# Altium integrated library Silicon Labs Clocks and Oscillators.IntLib: 678 symbols (part 34 of 45)
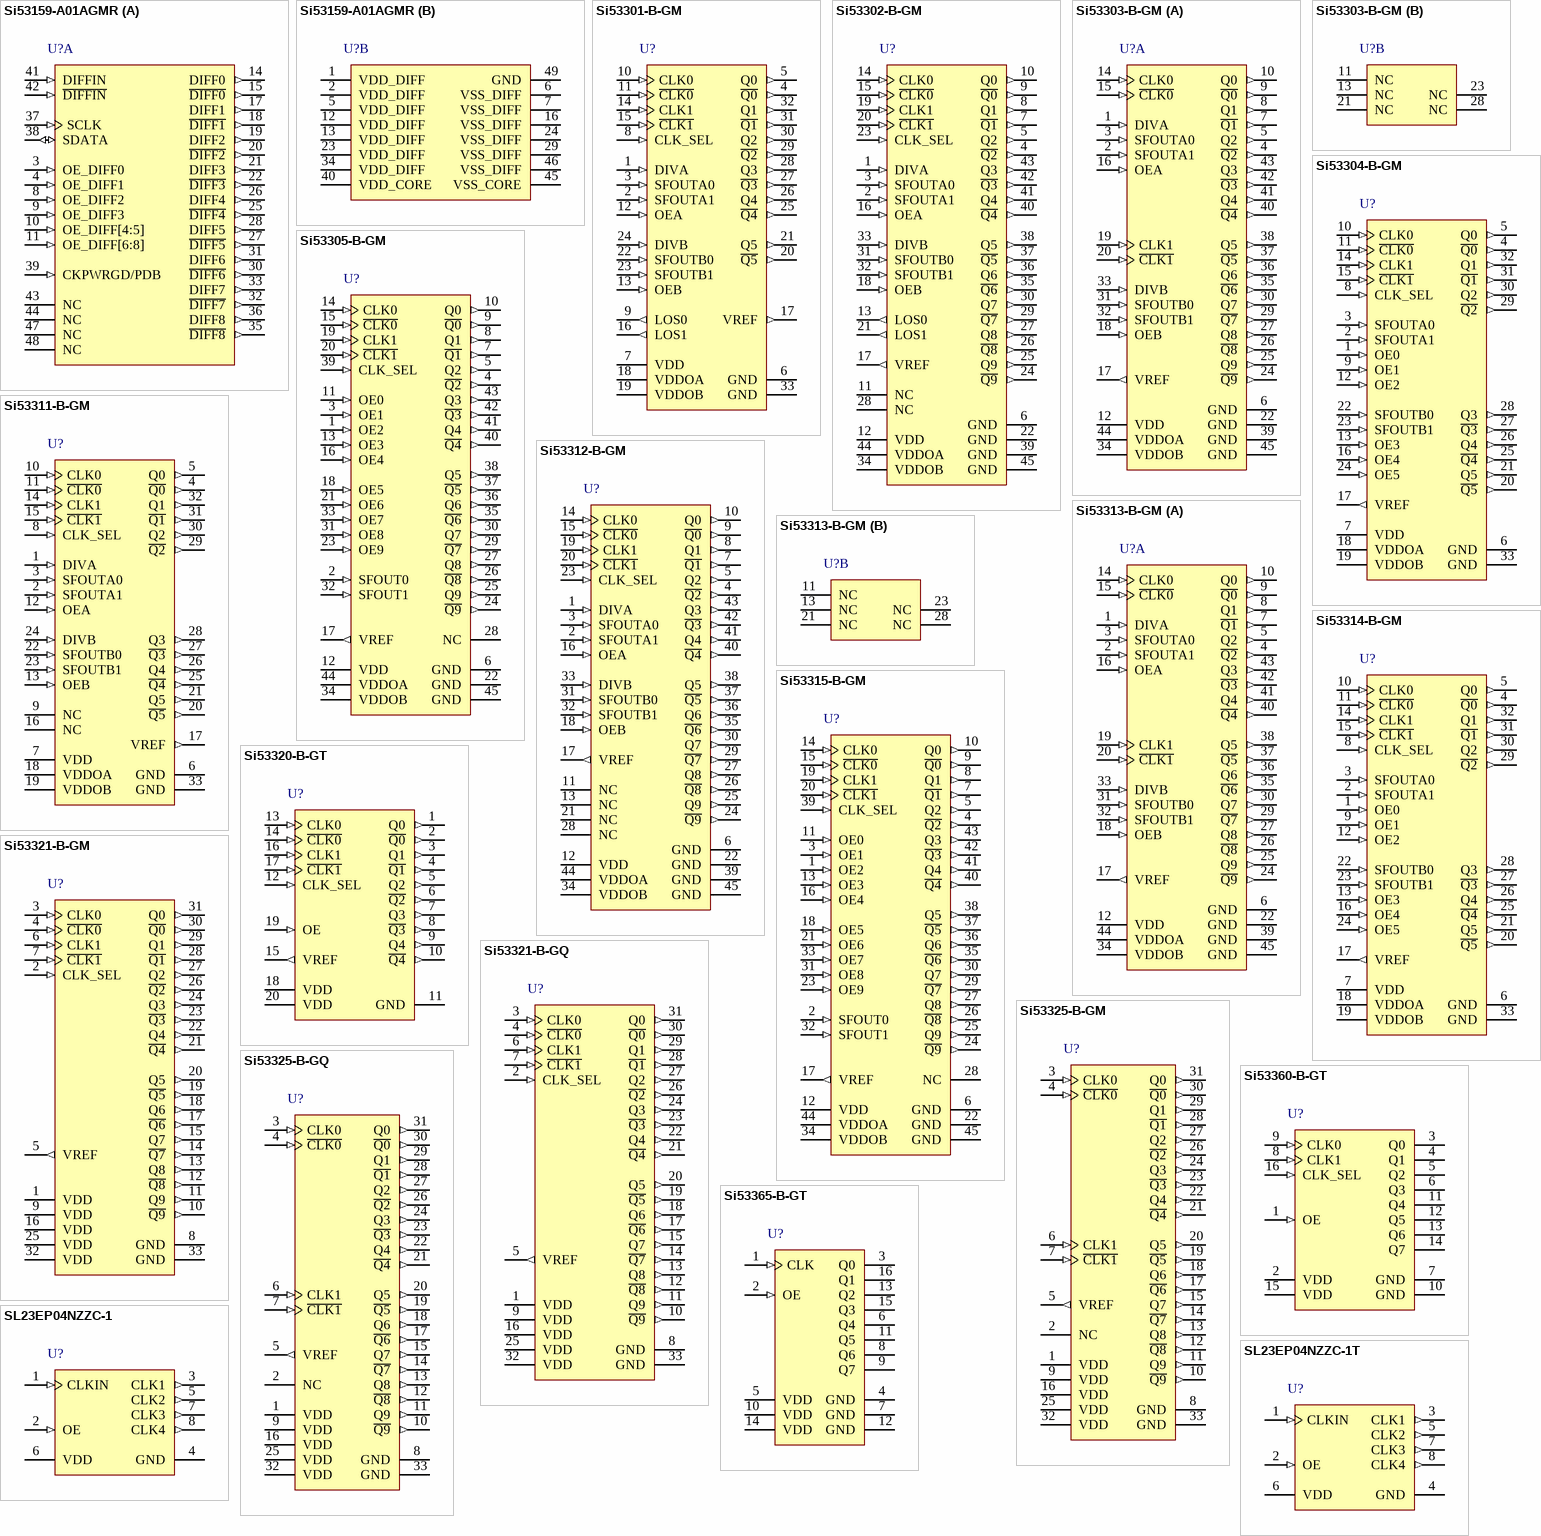
[diagram p77: symbols Si53159-A01AGMR to SL23EP04NZZC-1T]

## Si53303-B-GM
designator U?
Dual 1:5 Low Jitter Buffer / Level Translator, 1 to 725 MHz, -40 to 85 degC, 44-pin QFN; Manufacturer: Silicon Labs; PartNumber: Si53303-B-GM; Frequency (MHz): 1 to 725; Output Format: LVPECL; LVDS; CML; HCSL; LVCMOS; Sub-Family: Clock Buffers; DatasheetVersion: Rev. 0.4; PackageReference: QFN-44; PackageDescription: 44-Pin Quad-Flat No-Leads Package, Body 7 x 7 mm, Pitch 0.5 mm; Supplier 1: Digi-Key; Supplier Part Number 1: SI53303-B-GM-ND; Supplier 2: Mouser; Supplier Part Number 2: 634-SI53303-B-GM; Mounting Technology: Surface Mount; Code_JEDEC: MO-220; Code_IPC: J-STD-020; ComponentLink1Description: Manufacturer URL; ComponentLink1URL: http://www.silabs.com/; ComponentLink2Description: Datasheet; ComponentLink2URL: http://www.silabs.com/Support%20Documents/TechnicalDocs/Si53303.pdf; ComponentLink3Description: Package Specification; ComponentLink3URL: http://www.silabs.com/Support%20Documents/TechnicalDocs/Si53302.pdf
footprint SLAB-QFN-44-2800x2800TP_N (QFN, 44-Leads, Body 7x7mm, Pitch 0.5mm, Thermal Pad 2.8x2.8mm, IPC Medium Density)
footprint SLAB-QFN-44-2800x2800TP_L (QFN, 44-Leads, Body 7x7mm, Pitch 0.5mm, Thermal Pad 2.8x2.8mm, IPC High Density)
footprint SLAB-QFN-44-2800x2800TP_M (QFN, 44-Leads, Body 7x7mm, Pitch 0.5mm, Thermal Pad 2.8x2.8mm, IPC Low Density)
part A pins: 1 DIVA (in) "Output divider control pin for Bank A Three-level input control. Internally biased at VDD/2. Can be left floating or tied to ground or VDD.", 2 SFOUTA1 (in) "Output signal format control pin for Bank A Three-level input control. Internally biased at VDD/2. Can be left floating or tied to ground or VDD.", 3 SFOUTA0 (in) "Output signal format control pin for Bank A Three-level input control. Internally biased at VDD/2. Can be left floating or tied to ground or VDD.", 4 ~{Q2} (out) "Output clock 2 (complement)", 5 Q2 (out) "Output clock 2", 6 GND (power) "Ground", 7 ~{Q1} (out) "Output clock 1 (complement)", 8 Q1 (out) "Output clock 1", 9 ~{Q0} (out) "Output clock 0 (complement)", 10 Q0 (out) "Output clock 0", 12 VDD (power) "Core voltage supply Bypass with 1.0 uF capacitor and place close to the VDD pin as possible", 14 CLK0 (in) "Input clock 0", 15 ~{CLK0} (in) "Input clock 0 (complement) When CLK0 is driven by a single-ended input, connect VREF to C\L\K\0\. C\L\K\0\ contains an internal pull-up resistor", 16 OEA (in) "Output enable-Bank A When OE = high, the Bank A outputs are enabled When OE = low, Q is held low and Q\ is held high for differential formats For LVCMOS, both Q and Q\ are held low when OE is set low OEA contains an internal (See Datasheet)", 17 VREF (out) "Input reference voltage.When driven by a LVCMOS clock input, connect the unused clock input to VREF and a  0.1uF cap to ground. When driven by a differential clock, do not connect the VREF pin.", 18 OEB (in) "Output enable-Bank B When OE = high, the Bank B outputs are enabled When OE = low, Q is held low and Q\ is held high for differential formats For LVCMOS, both Q and Q\ are held low when OE is set low OEB contains an internal (See Datasheet)", 19 CLK1 (in) "Input clock 1", 20 ~{CLK1} (in) "Input clock 1 (complement) When CLK1 is driven by a single-ended input,When CLK1 is driven by a single-end input, connect VREF to C\L\K\1\. C\L\K\1\ contains an internal pull-up resistor", 22 GND (power) "Ground", 24 ~{Q9} (out) "Output clock 9 (complement)", 25 Q9 (out) "Output clock 9", 26 ~{Q8} (out) "Output clock 8 (complement)", 27 Q8 (out) "Output clock 8", 29 ~{Q7} (out) "Output clock 7 (complement)", 30 Q7 (out) "Output clock 7", 31 SFOUTB0 (in) "Output signal format control pin for Bank B Three-level input control. Internally biased at VDD/2. Can be left floating or tied to ground or VDD.", 32 SFOUTB1 (in) "Output signal format control pin for Bank B Three-level input control. Internally biased at VDD/2. Can be left floating or tied to ground or VDD.", 33 DIVB (in) "Output divider configuration bit for Bank B Three-level input control. Internally biased at VDD/2. Can be left floating or tied to ground or VDD.", 34 VDDOB (power) "Output Clock Voltage Supply-Bank B (Outputs: Q5 to Q9) Bypass with 1.0 uF capacitor and place close to the VDDOB pin as possible", 35 ~{Q6} (out) "Output clock 6 (complement)", 36 Q6 (out) "Output clock 6", 37 ~{Q5} (out) "Output clock 5 (complement)", 38 Q5 (out) "Output clock 5", 39 GND (power) "Ground", 40 ~{Q4} (out) "Output clock 4 (complement)", 41 Q4 (out) "Output clock 4", 42 ~{Q3} (out) "Output clock 3 (complement)", 43 Q3 (out) "Output clock 3", 44 VDDOA (power) "Output Voltage Supply-Bank A (Outputs: Q0 to Q4) Bypass with 1.0 uF capacitor and place close to the VDDOA pin as possible", 45 GND (power) "Ground Pad. Power supply ground and thermal relief"
part B pins: 11 NC "No connect", 13 NC "No connect", 21 NC "No connect", 23 NC "No connect", 28 NC "No connect"

## Si53304-B-GM
designator U?
1:6 Low Jitter Universal Buffer / Level Translator with 2:1 Input Mux and Individual OE, 1 to 725 MHz, -40 to 85 degC, 32-pin QFN; Manufacturer: Silicon Labs; PartNumber: Si53304-B-GM; Frequency (MHz): 1 to 725; Output Format: LVPECL; LVDS; CML; HCSL; LVCMOS; Sub-Family: Clock Buffers; DatasheetVersion: Rev. 0.4; PackageReference: QFN-32; PackageDescription: 32-Pin Quad-Flat No-Leads Package, Body 5 x 5 mm, Pitch 0.5 mm; Supplier 1: Digi-Key; Supplier Part Number 1: SI53304-B-GM-ND; Supplier 2: Mouser; Supplier Part Number 2: 634-SI53304-B-GM; Mounting Technology: Surface Mount; Code_JEDEC: MO-220; Code_IPC: J-STD-020; ComponentLink1Description: Manufacturer URL; ComponentLink1URL: http://www.silabs.com/; ComponentLink2Description: Datasheet; ComponentLink2URL: http://www.silabs.com/Support%20Documents/TechnicalDocs/Si53304.pdf; ComponentLink3Description: Package Specification; ComponentLink3URL: http://www.silabs.com/Support%20Documents/TechnicalDocs/Si53301.pdf
footprint SLAB-QFN-32-2150x2150TP_N (QFN, 32-Leads, Body 5x5mm, Pitch 0.5mm, Thermal Pad 2.15x2.15mm, IPC Medium Density)
footprint SLAB-QFN-32-2150x2150TP_L (QFN, 32-Leads, Body 5x5mm, Pitch 0.5mm, Thermal Pad 2.15x2.15mm, IPC High Density)
footprint SLAB-QFN-32-2150x2150TP_M (QFN, 32-Leads, Body 5x5mm, Pitch 0.5mm, Thermal Pad 2.15x2.15mm, IPC Low Density)
pins: 1 OE0 (in) "Output enable-Output 0 When OE = high, the Q0 is enabled. When OE = low, Q is held low and Q\ is held high for differential formats.For LVCMOS, both Q and Q\ are held low when OE is set low. This pin contains an internal (See Datasheet)", 2 SFOUTA1 (in) "Output signal format control pin for Bank A Three-level input control. Internally biased at VDD/2. Can be left floating or tied to ground or VDD.", 3 SFOUTA0 (in) "Output signal format control pin for Bank A Three-level input control. Internally biased at VDD/2. Can be left floating or tied to ground or VDD.", 4 ~{Q0} (out) "Output clock 0 (complement)", 5 Q0 (out) "Output clock 0", 6 GND (power) "Ground", 7 VDD (power) "Core voltage supply.Bypass with 1.0 uF capacitor and place as close to the VDD pin as possible.", 8 CLK_SEL (in) "Mux input select pin (LVCMOS) Clock inputs are switched without the introduction of glitches. When CLK_SEL is high, CLK1 is selected. When CLK_SEL is low, CLK0 is selected. CLK_SEL contains an internal pull-down resistor.", 9 OE1 (in) "Output enable-Output 1 When OE = high, the Q1 is enabled. When OE = low, Q is held low and Q\ is held high for differential formats.For LVCMOS, both Q and Q\ are held low when OE is set low. This pin contains an internal (See Datasheet)", 10 CLK0 (in) "Input clock 0", 11 ~{CLK0} (in) "Input clock 0 (complement When the CLK0 is driven by a single-end input, connect VREF to C\L\K\0\.C\L\K\0\ contains an internal pull-up resistor.", 12 OE2 (in) "Output enable-Output 2 When OE = high, the Q2 is enabled. When OE = low, Q is held low and Q\ is held high for differential formats.For LVCMOS, both Q and Q\ are held low when OE is set low. This pin contains an internal (See Datasheet)", 13 OE3 (in) "Output enable-Output 3 When OE = high, the Q3 is enabled. When OE = low, Q is held low and Q\ is held high for differential formats.For LVCMOS, both Q and Q\ are held low when OE is set low. This pin contains an internal (See Datasheet)", 14 CLK1 (in) "Input clock 1", 15 ~{CLK1} (in) "Input clock 1 (complement When the CLK1 is driven by a single-end input, connect VREF to C\L\K\1\.C\L\K\1\ contains an internal pull-up resistor.", 16 OE4 (in) "Output enable-Output 4 When OE = high, the Q4 is enabled. When OE = low, Q is held low and Q\ is held high for differential formats.For LVCMOS, both Q and Q\ are held low when OE is set low. This pin contains an internal (See Datasheet)", 17 VREF (out) "Input reference voltage", 18 VDDOA (power) "Output voltage supply-Bank A (Outputs: Q0 to Q2) Bypass with 1.0 uF capacitor and place as close to the VDDOA pin as possible.", 19 VDDOB (power) "Output voltage supply-Bank B (Outputs: Q3 to Q5) Bypass with 1.0 uF capacitor and place as close to the VDDOB pin as possible.", 20 ~{Q5} (out) "Output clock 5 (complement)", 21 Q5 (out) "Output clock 5", 22 SFOUTB0 (in) "Output signal format control pin for Bank B.Three-level input control. Internally biased at VDD/2. Can be left floating or tied toground or VDD.", 23 SFOUTB1 (in) "Output signal format control pin for Bank B.Three-level input control. Internally biased at VDD/2. Can be left floating or tied to ground or VDD.", 24 OE5 (in) "Output enable-Output 5 When OE = high, the Q5 is enabled. When OE = low, Q is held low and Q\ is held high for differential formats.For LVCMOS, both Q and Q\ are held low when OE is set low. This pin contains an internal (See Datasheet)", 25 ~{Q4} (out) "Output clock 4 (complement)", 26 Q4 (out) "Output clock 4", 27 ~{Q3} (out) "Output clock 3 (complement)", 28 Q3 (out) "Output clock 3", 29 ~{Q2} (out) "Output clock 2 (complement)", 30 Q2 (out) "Output clock 2", 31 ~{Q1} (out) "Output clock 1 (complement)", 32 Q1 (out) "Output clock 1", 33 GND (power) "Ground Pad.Power supply ground and thermal relief."

## Si53305-B-GM
designator U?
1:10 Low Jitter Universal Buffer/ Level Translator with 2:1 Input MUX and Individual OE, 1 to 725 MHz, -40 to 85 degC, 44-pin QFN; Manufacturer: Silicon Labs; PartNumber: Si53305-B-GM; Frequency (MHz): 1 to 725; Output Format: LVPECL; LVDS; CML; HCSL; LVCMOS; Sub-Family: Clock Buffers; DatasheetVersion: Rev. 0.4; PackageReference: QFN-44; PackageDescription: 44-Pin Quad-Flat No-Leads Package, Body 7 x 7 mm, Pitch 0.5 mm; Supplier 1: Digi-Key; Supplier Part Number 1: SI53305-B-GM-ND; Supplier 2: Mouser; Supplier Part Number 2: 634-SI53305-B-GM; Mounting Technology: Surface Mount; Code_JEDEC: MO-220; Code_IPC: J-STD-020; ComponentLink1Description: Manufacturer URL; ComponentLink1URL: http://www.silabs.com/; ComponentLink2Description: Datasheet; ComponentLink2URL: http://www.silabs.com/Support%20Documents/TechnicalDocs/Si53305.pdf; ComponentLink3Description: Package Specification; ComponentLink3URL: http://www.silabs.com/Support%20Documents/TechnicalDocs/Si53302.pdf
footprint SLAB-QFN-44-2800x2800TP_N (QFN, 44-Leads, Body 7x7mm, Pitch 0.5mm, Thermal Pad 2.8x2.8mm, IPC Medium Density)
footprint SLAB-QFN-44-2800x2800TP_L (QFN, 44-Leads, Body 7x7mm, Pitch 0.5mm, Thermal Pad 2.8x2.8mm, IPC High Density)
footprint SLAB-QFN-44-2800x2800TP_M (QFN, 44-Leads, Body 7x7mm, Pitch 0.5mm, Thermal Pad 2.8x2.8mm, IPC Low Density)
pins: 1 OE2 (in) "Output enable-Output 2 When OE = high, the Q2 is enabled. When OE = low, Q is held low, and Q\ is held high for differential formats. For LVCMOS, both Q and Q\ are held low when OE is set low. OE2 contains an internal (See Datasheet)", 2 SFOUT0 (in) "Output signal format control pin [0]  Three-level input control. Internally biased at VDD/2. Can be left floating or tied to  ground or VDD.", 3 OE1 (in) "Output enable-Output 1 When OE = high, the Q1 is enabled. When OE = low, Q is held low, and Q\ is held high for differential formats. For LVCMOS, both Q and Q\ are held low when OE is set low. OE1 contains an internal (See Datasheet)", 4 ~{Q2} (out) "Output clock 2 (complement)", 5 Q2 (out) "Output clock 2", 6 GND (power) "Ground", 7 ~{Q1} (out) "Output clock 1 (complement)", 8 Q1 (out) "Output clock 1", 9 ~{Q0} (out) "Output clock 0 (complement)", 10 Q0 (out) "Output clock 0", 11 OE0 (in) "Output enable-Output 0 When OE = high, the Q0 is enabled. When OE = low, Q is held low, and Q\ is held high for differential formats. For LVCMOS, both Q and Q\ are held low when OE is set low. OE0 contains an internal (See Datasheet)", 12 VDD (power) "Core voltage supply Bypass with 1.0 uF capacitor and place close to the VDD pin as possible", 13 OE3 (in) "Output enable-Output 3 When OE = high, the Q3 is enabled. When OE = low, Q is held low, and Q\ is held high for differential formats. For LVCMOS, both Q and Q\ are held low when OE is set low. OE3 contains an internal (See Datasheet)", 14 CLK0 (in) "Input clock 0", 15 ~{CLK0} (in) "Input clock 0 (complement) When CLK0 is driven by a single-ended input, connect VREF to C\L\K\0\. C\L\K\0\ contains an internal pull-up resistor", 16 OE4 (in) "Output enable-Output 4 When OE = high, the Q4 is enabled. When OE = low, Q is held low, and Q\ is held high for differential formats. For LVCMOS, both Q and Q\ are held low when OE is set low. OE4 contains an internal (See Datasheet)", 17 VREF (out) "Input reference voltage.When driven by a LVCMOS clock input, connect the unused clock input to VREF and a  0.1uF cap to ground. When driven by a differential clock, do not connect the VREF pin.", 18 OE5 (in) "Output enable-Output 5 When OE = high, the Q5 is enabled. When OE = low, Q is held low, and Q\ is held high for differential formats. For LVCMOS, both Q and Q\ are held low when OE is set low. OE5 contains an internal (See Datasheet)", 19 CLK1 (in) "Input clock 1", 20 ~{CLK1} (in) "Input clock 1 (complement) When CLK1 is driven by a single-ended input,When CLK1 is driven by a single-end input, connect VREF to C\L\K\1\. C\L\K\1\ contains an internal pull-up resistor", 21 OE6 (in) "Output enable-Output 6 When OE = high, the Q6 is enabled. When OE = low, Q is held low, and Q\ is held high for differential formats. For LVCMOS, both Q and Q\ are held low when OE is set low. OE6 contains an internal (See Datasheet)", 22 GND (power) "Ground", 23 OE9 (in) "Output enable-Output 9 When OE = high, the Q9 is enabled. When OE = low, Q is held low, and Q\ is held high for differential formats. For LVCMOS, both Q and Q\ are held low when OE is set low. OE9 contains an internal (See Datasheet)", 24 ~{Q9} (out) "Output clock 9 (complement)", 25 Q9 (out) "Output clock 9", 26 ~{Q8} (out) "Output clock 8 (complement)", 27 Q8 (out) "Output clock 8", 28 NC "No connect", 29 ~{Q7} (out) "Output clock 7 (complement)", 30 Q7 (out) "Output clock 7", 31 OE8 (in) "Output enable-Output 8 When OE = high, the Q8 is enabled. When OE = low, Q is held low, and Q\ is held high for differential formats. For LVCMOS, both Q and Q\ are held low when OE is set low. OE8 contains an internal (See Datasheet)", 32 SFOUT1 (in) "Output signal format control pin [1]  Three-level input control. Internally biased at VDD/2. Can be left floating or tied to  ground or VDD.", 33 OE7 (in) "Output enable-Output 7 When OE = high, the Q7 is enabled. When OE = low, Q is held low, and Q\ is held high for differential formats. For LVCMOS, both Q and Q\ are held low when OE is set low. OE7 contains an internal (See Datasheet)", 34 VDDOB (power) "Output Clock Voltage Supply-Bank B (Outputs: Q5 to Q9) Bypass with 1.0 uF capacitor and place close to the VDDOB pin as possible", 35 ~{Q6} (out) "Output clock 6 (complement)", 36 Q6 (out) "Output clock 6", 37 ~{Q5} (out) "Output clock 5 (complement)", 38 Q5 (out) "Output clock 5", 39 CLK_SEL (in) "MUX input select pin (LVCMOS) Clock inputs are switched without the introduction of glitches When CLK_SEL is high, CLK1 is selected When CLK_SEL is low, CLK0 is selected CLK_SEL contains an internal pull-down resistor", 40 ~{Q4} (out) "Output clock 4 (complement)", 41 Q4 (out) "Output clock 4", 42 ~{Q3} (out) "Output clock 3 (complement)", 43 Q3 (out) "Output clock 3", 44 VDDOA (power) "Output Voltage Supply-Bank A (Outputs: Q0 to Q4) Bypass with 1.0 uF capacitor and place close to the VDDOA pin as possible", 45 GND (power) "Ground Pad. Power supply ground and thermal relief"

## Si53311-B-GM
designator U?
1:6 Low Jitter Universal Buffer / Level Translator with 2:1 Input Mux, 1 to 1250 MHz, -40 to 85 degC, 32-pin QFN; Manufacturer: Silicon Labs; PartNumber: Si53311-B-GM; Output Format: LVPECL; LVDS; CML; HCSL; LVCMOS; Sub-Family: Clock Buffers; DatasheetVersion: Rev. 0.4; PackageReference: QFN-32; PackageDescription: 32-Pin Quad-Flat No-Leads Package, Body 5 x 5 mm, Pitch 0.5 mm; Supplier 1: Digi-Key; Supplier Part Number 1: SI53311-B-GM-ND; Supplier 2: Mouser; Supplier Part Number 2: 634-SI53311-B-GM; Frequency (MHz): 1 to 1250; Mounting Technology: Surface Mount; Code_JEDEC: MO-220; Code_IPC: J-STD-020; ComponentLink1Description: Manufacturer URL; ComponentLink1URL: http://www.silabs.com/; ComponentLink2Description: Datasheet; ComponentLink2URL: http://www.silabs.com/Support%20Documents/TechnicalDocs/Si53311.pdf; ComponentLink3Description: Package Specification; ComponentLink3URL: http://www.silabs.com/Support%20Documents/TechnicalDocs/Si53301.pdf
footprint SLAB-QFN-32-2150x2150TP_N (QFN, 32-Leads, Body 5x5mm, Pitch 0.5mm, Thermal Pad 2.15x2.15mm, IPC Medium Density)
footprint SLAB-QFN-32-2150x2150TP_L (QFN, 32-Leads, Body 5x5mm, Pitch 0.5mm, Thermal Pad 2.15x2.15mm, IPC High Density)
footprint SLAB-QFN-32-2150x2150TP_M (QFN, 32-Leads, Body 5x5mm, Pitch 0.5mm, Thermal Pad 2.15x2.15mm, IPC Low Density)
pins: 1 DIVA (in) "Output divider control pin for Bank A Three-level input control. Internally biased at VDD/2. Can be left floating or tied to ground or VDD.", 2 SFOUTA1 (in) "Output signal format control pin for Bank A Three-level input control. Internally biased at VDD/2. Can be left floating or tied to ground or VDD.", 3 SFOUTA0 (in) "Output signal format control pin for Bank A Three-level input control. Internally biased at VDD/2. Can be left floating or tied to ground or VDD.", 4 ~{Q0} (out) "Output clock 0 (complement)", 5 Q0 (out) "Output clock 0", 6 GND (power) "Ground", 7 VDD (power) "Core voltage supply.Bypass with 1.0 uF capacitor and place as close to the VDD pin as possible.", 8 CLK_SEL (in) "Mux input select pin (LVCMOS) Clock inputs are switched without the introduction of glitches. When CLK_SEL is high, CLK1 is selected. When CLK_SEL is low, CLK0 is selected. CLK_SEL contains an internal pull-down resistor.", 9 NC "No connect.", 10 CLK0 (in) "Input clock 0", 11 ~{CLK0} (in) "Input clock 0 (complement) When the CLK0 is driven by a single-end input, connect VREF to C\L\K\0\.C\L\K\0\ contains an internal pull-up resistor.", 12 OEA (in) "Output enable-Bank A When OE = high, the Bank A outputs are enabled. When OE = low, Q is held low, and Q\ is held high for differential formats. For LVCMOS, both Q and Q\ are held low when OE is set low. OEA contains an (See Datasheet)", 13 OEB (in) "Output enable-Bank B When OE = high, the Bank B outputs are enabled. When OE = low, Q is held low, and Q\ is held high for differential formats. For LVCMOS, both Q and Q\ are held low when OE is set low. OEB contains an (See Datasheet)", 14 CLK1 (in) "Input clock 1", 15 ~{CLK1} (in) "Input clock 1 (complement) When the CLK1 is driven by a single-end input, connect VREF to C\L\K\1\.C\L\K\1\ contains an internal pull-up resistor.", 16 NC "No connect.", 17 VREF (out) "Input reference voltage,When driven by a LVCMOS clock input, connect the unused clock input to VREF and  a 0.1uF cap to ground. When driven by a differential clock, do not connect the VREF pin.", 18 VDDOA (power) "Output voltage supply-Bank A (Outputs: Q0 to Q2) Bypass with 1.0 uF capacitor and place as close to the VDDOA pin as possible.", 19 VDDOB (power) "Output voltage supply-Bank B (Outputs: Q3 to Q5) Bypass with 1.0 uF capacitor and place as close to the VDDOB pin as possible.", 20 ~{Q5} (out) "Output clock 5 (complement)", 21 Q5 (out) "Output clock 5", 22 SFOUTB0 (in) "Output signal format control pin for Bank B.Three-level input control. Internally biased at VDD/2. Can be left floating or tied toground or VDD.", 23 SFOUTB1 (in) "Output signal format control pin for Bank B.Three-level input control. Internally biased at VDD/2. Can be left floating or tied to ground or VDD.", 24 DIVB (in) "Output divider control pin for Bank B.Three-level input control. Internally biased at VDD/2. Can be left floating or tied to ground or VDD.", 25 ~{Q4} (out) "Output clock 4 (complement)", 26 Q4 (out) "Output clock 4", 27 ~{Q3} (out) "Output clock 3 (complement)", 28 Q3 (out) "Output clock 3", 29 ~{Q2} (out) "Output clock 2 (complement)", 30 Q2 (out) "Output clock 2", 31 ~{Q1} (out) "Output clock 1 (complement)", 32 Q1 (out) "Output clock 1", 33 GND (power) "Ground Pad.Power supply ground and thermal relief."

## Si53312-B-GM
designator U?
1:10 Low Jitter Universal Buffer / Level Translator with 2:1 Input Mux, 1 to 1250 MHz, -40 to 85 degC, 44-pin QFN; Manufacturer: Silicon Labs; PartNumber: Si53312-B-GM; Output Format: LVPECL; LVDS; CML; HCSL; LVCMOS; Sub-Family: Clock Buffers; DatasheetVersion: Rev. 0.4; PackageReference: QFN-44; PackageDescription: 44-Pin Quad-Flat No-Leads Package, Body 7 x 7 mm, Pitch 0.5 mm; Supplier 1: Digi-Key; Supplier Part Number 1: SI53312-B-GM-ND; Supplier 2: Mouser; Supplier Part Number 2: 634-SI53312-B-GM; Frequency (MHz): 1 to 1250; Mounting Technology: Surface Mount; Code_JEDEC: MO-220; Code_IPC: J-STD-020; ComponentLink1Description: Manufacturer URL; ComponentLink1URL: http://www.silabs.com/; ComponentLink2Description: Datasheet; ComponentLink2URL: http://www.silabs.com/Support%20Documents/TechnicalDocs/Si53312.pdf; ComponentLink3Description: Package Specification; ComponentLink3URL: http://www.silabs.com/Support%20Documents/TechnicalDocs/Si53302.pdf
footprint SLAB-QFN-44-2800x2800TP_N (QFN, 44-Leads, Body 7x7mm, Pitch 0.5mm, Thermal Pad 2.8x2.8mm, IPC Medium Density)
footprint SLAB-QFN-44-2800x2800TP_L (QFN, 44-Leads, Body 7x7mm, Pitch 0.5mm, Thermal Pad 2.8x2.8mm, IPC High Density)
footprint SLAB-QFN-44-2800x2800TP_M (QFN, 44-Leads, Body 7x7mm, Pitch 0.5mm, Thermal Pad 2.8x2.8mm, IPC Low Density)
pins: 1 DIVA (in) "Output divider control pin for Bank A Three-level input control. Internally biased at VDD/2. Can be left floating or tied to ground or VDD.", 2 SFOUTA1 (in) "Output signal format control pin for Bank A Three-level input control. Internally biased at VDD/2. Can be left floating or tied to ground or VDD.", 3 SFOUTA0 (in) "Output signal format control pin for Bank A Three-level input control. Internally biased at VDD/2. Can be left floating or tied to ground or VDD.", 4 ~{Q2} (out) "Output clock 2 (complement)", 5 Q2 (out) "Output clock 2", 6 GND (power) "Ground", 7 ~{Q1} (out) "Output clock 1 (complement)", 8 Q1 (out) "Output clock 1", 9 ~{Q0} (out) "Output clock 0 (complement)", 10 Q0 (out) "Output clock 0", 11 NC "No connect", 12 VDD (power) "Core voltage supply Bypass with 1.0 uF capacitor and place close to the VDD pin as possible", 13 NC "No connect", 14 CLK0 (in) "Input clock 0", 15 ~{CLK0} (in) "Input clock 0 (complement) When CLK0 is driven by a single-ended input, connect VREF to C\L\K\0\. C\L\K\0\ contains an internal pull-up resistor", 16 OEA (in) "Output enable-Bank A When OE = high, the Bank A outputs are enabled When OE = low, Q is held low and Q\ is held high for differential formats For LVCMOS, both Q and Q\ are held low when OE is set low. OEA contains an (See Datasheet)", 17 VREF (out) "Input reference voltage.When driven by a LVCMOS clock input, connect the unused clock input to VREF and a  0.1uF cap to ground. When driven by a differential clock, do not connect the VREF pin.", 18 OEB (in) "Output enable-Bank B When OE = high, the Bank B outputs are enabled When OE = low, Q is held low and Q\ is held high for differential formats For LVCMOS, both Q and Q\ are held low when OE is set low OEB contains an internal (See Datasheet)", 19 CLK1 (in) "Input clock 1", 20 ~{CLK1} (in) "Input clock 1 (complement) When CLK1 is driven by a single-ended input,When CLK1 is driven by a single-end input, connect VREF to C\L\K\1\. C\L\K\1\ contains an internal pull-up resistor", 21 NC "No connect", 22 GND (power) "Ground", 23 CLK_SEL (in) "MUX input select pin (LVCMOS) Clock inputs are switched without the introduction of glitches When CLK_SEL is high, CLK1 is selected When CLK_SEL is low, CLK0 is selected CLK_SEL contains an internal pull-down resistor", 24 ~{Q9} (out) "Output clock 9 (complement)", 25 Q9 (out) "Output clock 9", 26 ~{Q8} (out) "Output clock 8 (complement)", 27 Q8 (out) "Output clock 8", 28 NC "No connect", 29 ~{Q7} (out) "Output clock 7 (complement)", 30 Q7 (out) "Output clock 7", 31 SFOUTB0 (in) "Output signal format control pin for Bank B Three-level input control. Internally biased at VDD/2. Can be left floating or tied to ground or VDD.", 32 SFOUTB1 (in) "Output signal format control pin for Bank B Three-level input control. Internally biased at VDD/2. Can be left floating or tied to ground or VDD.", 33 DIVB (in) "Output divider configuration bit for Bank B Three-level input control. Internally biased at VDD/2. Can be left floating or tied to ground or VDD.", 34 VDDOB (power) "Output Clock Voltage Supply-Bank B (Outputs: Q5 to Q9) Bypass with 1.0 uF capacitor and place close to the VDDOB pin as possible", 35 ~{Q6} (out) "Output clock 6 (complement)", 36 Q6 (out) "Output clock 6", 37 ~{Q5} (out) "Output clock 5 (complement)", 38 Q5 (out) "Output clock 5", 39 GND (power) "Ground", 40 ~{Q4} (out) "Output clock 4 (complement)", 41 Q4 (out) "Output clock 4", 42 ~{Q3} (out) "Output clock 3 (complement)", 43 Q3 (out) "Output clock 3", 44 VDDOA (power) "Output Voltage Supply-Bank A (Outputs: Q0 to Q4) Bypass with 1.0 uF capacitor and place close to the VDDOA pin as possible", 45 GND (power) "Ground Pad. Power supply ground and thermal relief"

## Si53313-B-GM
designator U?
Dual 1:5 Low Jitter Buffer / Level Translator, 1 to 1250 MHz, -40 to 85 degC, 44-pin QFN; Manufacturer: Silicon Labs; PartNumber: Si53313-B-GM; Output Format: LVPECL; LVDS; CML; HCSL; LVCMOS; Sub-Family: Clock Buffers; DatasheetVersion: Rev. 0.4; PackageReference: QFN-44; PackageDescription: 44-Pin Quad-Flat No-Leads Package, Body 7 x 7 mm, Pitch 0.5 mm; Supplier 1: Digi-Key; Supplier Part Number 1: SI53313-B-GM-ND; Supplier 2: Mouser; Supplier Part Number 2: 634-SI53313-B-GM; Frequency (MHz): 1 to 1250; Mounting Technology: Surface Mount; Code_JEDEC: MO-220; Code_IPC: J-STD-020; ComponentLink1Description: Manufacturer URL; ComponentLink1URL: http://www.silabs.com/; ComponentLink2Description: Datasheet; ComponentLink2URL: http://www.silabs.com/Support%20Documents/TechnicalDocs/Si53313.pdf; ComponentLink3Description: Package Specification; ComponentLink3URL: http://www.silabs.com/Support%20Documents/TechnicalDocs/Si53302.pdf
footprint SLAB-QFN-44-2800x2800TP_N (QFN, 44-Leads, Body 7x7mm, Pitch 0.5mm, Thermal Pad 2.8x2.8mm, IPC Medium Density)
footprint SLAB-QFN-44-2800x2800TP_L (QFN, 44-Leads, Body 7x7mm, Pitch 0.5mm, Thermal Pad 2.8x2.8mm, IPC High Density)
footprint SLAB-QFN-44-2800x2800TP_M (QFN, 44-Leads, Body 7x7mm, Pitch 0.5mm, Thermal Pad 2.8x2.8mm, IPC Low Density)
part A pins: 1 DIVA (in) "Output divider control pin for Bank A Three-level input control. Internally biased at VDD/2. Can be left floating or tied to ground or VDD.", 2 SFOUTA1 (in) "Output signal format control pin for Bank A Three-level input control. Internally biased at VDD/2. Can be left floating or tied to ground or VDD.", 3 SFOUTA0 (in) "Output signal format control pin for Bank A Three-level input control. Internally biased at VDD/2. Can be left floating or tied to ground or VDD.", 4 ~{Q2} (out) "Output clock 2 (complement)", 5 Q2 (out) "Output clock 2", 6 GND (power) "Ground", 7 ~{Q1} (out) "Output clock 1 (complement)", 8 Q1 (out) "Output clock 1", 9 ~{Q0} (out) "Output clock 0 (complement)", 10 Q0 (out) "Output clock 0", 12 VDD (power) "Core voltage supply Bypass with 1.0 uF capacitor and place close to the VDD pin as possible", 14 CLK0 (in) "Input clock 0", 15 ~{CLK0} (in) "Input clock 0 (complement) When CLK0 is driven by a single-ended input, connect VREF to C\L\K\0\. C\L\K\0\ contains an internal pull-up resistor", 16 OEA (in) "Output enable-Bank A When OE = high, the Bank A outputs are enabled When OE = low, Q is held low and Q\ is held high for differential formats For LVCMOS, both Q and Q\ are held low when OE is set low OEA contains an internal (See Datasheet)", 17 VREF (out) "Input reference voltage.When driven by a LVCMOS clock input, connect the unused clock input to VREF and a  0.1uF cap to ground. When driven by a differential clock, do not connect the VREF pin.", 18 OEB (in) "Output enable-Bank B When OE = high, the Bank B outputs are enabled When OE = low, Q is held low and Q\ is held high for differential formats For LVCMOS, both Q and Q\ are held low when OE is set low OEB contains an internal (See Datasheet)", 19 CLK1 (in) "Input clock 1", 20 ~{CLK1} (in) "Input clock 1 (complement) When CLK1 is driven by a single-ended input,When CLK1 is driven by a single-end input, connect VREF to C\L\K\1\. C\L\K\1\ contains an internal pull-up resistor", 22 GND (power) "Ground", 24 ~{Q9} (out) "Output clock 9 (complement)", 25 Q9 (out) "Output clock 9", 26 ~{Q8} (out) "Output clock 8 (complement)", 27 Q8 (out) "Output clock 8", 29 ~{Q7} (out) "Output clock 7 (complement)", 30 Q7 (out) "Output clock 7", 31 SFOUTB0 (in) "Output signal format control pin for Bank B Three-level input control. Internally biased at VDD/2. Can be left floating or tied to ground or VDD.", 32 SFOUTB1 (in) "Output signal format control pin for Bank B Three-level input control. Internally biased at VDD/2. Can be left floating or tied to ground or VDD.", 33 DIVB (in) "Output divider configuration bit for Bank B Three-level input control. Internally biased at VDD/2. Can be left floating or tied to ground or VDD.", 34 VDDOB (power) "Output Clock Voltage Supply-Bank B (Outputs: Q5 to Q9) Bypass with 1.0 uF capacitor and place close to the VDDOB pin as possible", 35 ~{Q6} (out) "Output clock 6 (complement)", 36 Q6 (out) "Output clock 6", 37 ~{Q5} (out) "Output clock 5 (complement)", 38 Q5 (out) "Output clock 5", 39 GND (power) "Ground", 40 ~{Q4} (out) "Output clock 4 (complement)", 41 Q4 (out) "Output clock 4", 42 ~{Q3} (out) "Output clock 3 (complement)", 43 Q3 (out) "Output clock 3", 44 VDDOA (power) "Output Voltage Supply-Bank A (Outputs: Q0 to Q4) Bypass with 1.0 uF capacitor and place close to the VDDOA pin as possible", 45 GND (power) "Ground Pad. Power supply ground and thermal relief"
part B pins: 11 NC "No connect", 13 NC "No connect", 21 NC "No connect", 23 NC "No connect", 28 NC "No connect"

## Si53314-B-GM
designator U?
1:6 Low Jitter Universal Buffer / Level Translator with 2:1 Input Mux and Individual OE, 1 to 1250 MHz, -40 to 85 degC, 32-pin QFN; Manufacturer: Silicon Labs; PartNumber: Si53314-B-GM; Output Format: LVPECL; LVDS; CML; HCSL; LVCMOS; Sub-Family: Clock Buffers; DatasheetVersion: Rev. 0.4; PackageReference: QFN-32; PackageDescription: 32-Pin Quad-Flat No-Leads Package, Body 5 x 5 mm, Pitch 0.5 mm; Supplier 1: Digi-Key; Supplier Part Number 1: SI53314-B-GM-ND; Supplier 2: Mouser; Supplier Part Number 2: 634-SI53314-B-GM; Frequency (MHz): 1 to 1250; Mounting Technology: Surface Mount; Code_JEDEC: MO-220; Code_IPC: J-STD-020; ComponentLink1Description: Manufacturer URL; ComponentLink1URL: http://www.silabs.com/; ComponentLink2Description: Datasheet; ComponentLink2URL: http://www.silabs.com/Support%20Documents/TechnicalDocs/Si53314.pdf; ComponentLink3Description: Package Specification; ComponentLink3URL: http://www.silabs.com/Support%20Documents/TechnicalDocs/Si53301.pdf
footprint SLAB-QFN-32-2150x2150TP_N (QFN, 32-Leads, Body 5x5mm, Pitch 0.5mm, Thermal Pad 2.15x2.15mm, IPC Medium Density)
footprint SLAB-QFN-32-2150x2150TP_L (QFN, 32-Leads, Body 5x5mm, Pitch 0.5mm, Thermal Pad 2.15x2.15mm, IPC High Density)
footprint SLAB-QFN-32-2150x2150TP_M (QFN, 32-Leads, Body 5x5mm, Pitch 0.5mm, Thermal Pad 2.15x2.15mm, IPC Low Density)
pins: 1 OE0 (in) "Output enable-Output 0 When OE = high, the Q0 is enabled. When OE = low, Q is held low and Q\ is held high for differential formats.For LVCMOS, both Q and Q\ are held low when OE is set low. This pin contains an internal (See Datasheet)", 2 SFOUTA1 (in) "Output signal format control pin for Bank A Three-level input control. Internally biased at VDD/2. Can be left floating or tied to ground or VDD.", 3 SFOUTA0 (in) "Output signal format control pin for Bank A Three-level input control. Internally biased at VDD/2. Can be left floating or tied to ground or VDD.", 4 ~{Q0} (out) "Output clock 0 (complement)", 5 Q0 (out) "Output clock 0", 6 GND (power) "Ground", 7 VDD (power) "Core voltage supply.Bypass with 1.0 uF capacitor and place as close to the VDD pin as possible.", 8 CLK_SEL (in) "Mux input select pin (LVCMOS) Clock inputs are switched without the introduction of glitches. When CLK_SEL is high, CLK1 is selected. When CLK_SEL is low, CLK0 is selected. CLK_SEL contains an internal pull-down resistor.", 9 OE1 (in) "Output enable-Output 1 When OE = high, the Q1 is enabled. When OE = low, Q is held low and Q\ is held high for differential formats.For LVCMOS, both Q and Q\ are held low when OE is set low. This pin contains an internal (See Datasheet)", 10 CLK0 (in) "Input clock 0", 11 ~{CLK0} (in) "Input clock 0 (complement When the CLK0 is driven by a single-end input, connect VREF to C\L\K\0\.C\L\K\0\ contains an internal pull-up resistor.", 12 OE2 (in) "Output enable-Output 2 When OE = high, the Q2 is enabled. When OE = low, Q is held low and Q\ is held high for differential formats.For LVCMOS, both Q and Q\ are held low when OE is set low. This pin contains an internal (See Datasheet)", 13 OE3 (in) "Output enable-Output 3 When OE = high, the Q3 is enabled. When OE = low, Q is held low and Q\ is held high for differential formats.For LVCMOS, both Q and Q\ are held low when OE is set low. This pin contains an internal (See Datasheet)", 14 CLK1 (in) "Input clock 1", 15 ~{CLK1} (in) "Input clock 1 (complement When the CLK1 is driven by a single-end input, connect VREF to C\L\K\1\.C\L\K\1\ contains an internal pull-up resistor.", 16 OE4 (in) "Output enable-Output 4 When OE = high, the Q4 is enabled. When OE = low, Q is held low and Q\ is held high for differential formats.For LVCMOS, both Q and Q\ are held low when OE is set low. This pin contains an internal (See Datasheet)", 17 VREF (out) "Input reference voltage", 18 VDDOA (power) "Output voltage supply-Bank A (Outputs: Q0 to Q2) Bypass with 1.0 uF capacitor and place as close to the VDDOA pin as possible.", 19 VDDOB (power) "Output voltage supply-Bank B (Outputs: Q3 to Q5) Bypass with 1.0 uF capacitor and place as close to the VDDOB pin as possible.", 20 ~{Q5} (out) "Output clock 5 (complement)", 21 Q5 (out) "Output clock 5", 22 SFOUTB0 (in) "Output signal format control pin for Bank B.Three-level input control. Internally biased at VDD/2. Can be left floating or tied toground or VDD.", 23 SFOUTB1 (in) "Output signal format control pin for Bank B.Three-level input control. Internally biased at VDD/2. Can be left floating or tied to ground or VDD.", 24 OE5 (in) "Output enable-Output 5 When OE = high, the Q5 is enabled. When OE = low, Q is held low and Q\ is held high for differential formats.For LVCMOS, both Q and Q\ are held low when OE is set low. This pin contains an internal (See Datasheet)", 25 ~{Q4} (out) "Output clock 4 (complement)", 26 Q4 (out) "Output clock 4", 27 ~{Q3} (out) "Output clock 3 (complement)", 28 Q3 (out) "Output clock 3", 29 ~{Q2} (out) "Output clock 2 (complement)", 30 Q2 (out) "Output clock 2", 31 ~{Q1} (out) "Output clock 1 (complement)", 32 Q1 (out) "Output clock 1", 33 GND (power) "Ground Pad.Power supply ground and thermal relief."

## Si53315-B-GM
designator U?
1:10 Low Jitter Universal Buffer / Level Translator with 2:1 Input Mux and Individual OE, 1 to 1250 MHz, -40 to 85 degC, 44-pin QFN; Manufacturer: Silicon Labs; PartNumber: Si53315-B-GM; Output Format: LVPECL; LVDS; CML; HCSL; LVCMOS; Sub-Family: Clock Buffers; DatasheetVersion: Rev. 0.4; PackageReference: QFN-44; PackageDescription: 44-Pin Quad-Flat No-Leads Package, Body 7 x 7 mm, Pitch 0.5 mm; Supplier 1: Digi-Key; Supplier Part Number 1: SI53315-B-GM-ND; Supplier 2: Mouser; Supplier Part Number 2: 634-SI53315-B-GM; Frequency (MHz): 1 to 1250; Mounting Technology: Surface Mount; Code_JEDEC: MO-220; Code_IPC: J-STD-020; ComponentLink1Description: Manufacturer URL; ComponentLink1URL: http://www.silabs.com/; ComponentLink2Description: Datasheet; ComponentLink2URL: http://www.silabs.com/Support%20Documents/TechnicalDocs/Si53315.pdf; ComponentLink3Description: Package Specification; ComponentLink3URL: http://www.silabs.com/Support%20Documents/TechnicalDocs/Si53302.pdf
footprint SLAB-QFN-44-2800x2800TP_N (QFN, 44-Leads, Body 7x7mm, Pitch 0.5mm, Thermal Pad 2.8x2.8mm, IPC Medium Density)
footprint SLAB-QFN-44-2800x2800TP_L (QFN, 44-Leads, Body 7x7mm, Pitch 0.5mm, Thermal Pad 2.8x2.8mm, IPC High Density)
footprint SLAB-QFN-44-2800x2800TP_M (QFN, 44-Leads, Body 7x7mm, Pitch 0.5mm, Thermal Pad 2.8x2.8mm, IPC Low Density)
pins: 1 OE2 (in) "Output enable-Output 2 When OE = high, the Q2 is enabled. When OE = low, Q is held low, and Q\ is held high for differential formats. For LVCMOS, both Q and Q\ are held low when OE is set low. OE2 contains an internal (See Datasheet)", 2 SFOUT0 (in) "Output signal format control pin [0]  Three-level input control. Internally biased at VDD/2. Can be left floating or tied to  ground or VDD.", 3 OE1 (in) "Output enable-Output 1 When OE = high, the Q1 is enabled. When OE = low, Q is held low, and Q\ is held high for differential formats. For LVCMOS, both Q and Q\ are held low when OE is set low. OE1 contains an internal (See Datasheet)", 4 ~{Q2} (out) "Output clock 2 (complement)", 5 Q2 (out) "Output clock 2", 6 GND (power) "Ground", 7 ~{Q1} (out) "Output clock 1 (complement)", 8 Q1 (out) "Output clock 1", 9 ~{Q0} (out) "Output clock 0 (complement)", 10 Q0 (out) "Output clock 0", 11 OE0 (in) "Output enable-Output 0 When OE = high, the Q0 is enabled. When OE = low, Q is held low, and Q\ is held high for differential formats. For LVCMOS, both Q and Q\ are held low when OE is set low. OE0 contains an internal (See Datasheet)", 12 VDD (power) "Core voltage supply Bypass with 1.0 uF capacitor and place close to the VDD pin as possible", 13 OE3 (in) "Output enable-Output 3 When OE = high, the Q3 is enabled. When OE = low, Q is held low, and Q\ is held high for differential formats. For LVCMOS, both Q and Q\ are held low when OE is set low. OE3 contains an internal (See Datasheet)", 14 CLK0 (in) "Input clock 0", 15 ~{CLK0} (in) "Input clock 0 (complement) When CLK0 is driven by a single-ended input, connect VREF to C\L\K\0\. C\L\K\0\ contains an internal pull-up resistor", 16 OE4 (in) "Output enable-Output 4 When OE = high, the Q4 is enabled. When OE = low, Q is held low, and Q\ is held high for differential formats. For LVCMOS, both Q and Q\ are held low when OE is set low. OE4 contains an internal (See Datasheet)", 17 VREF (out) "Input reference voltage.When driven by a LVCMOS clock input, connect the unused clock input to VREF and a  0.1uF cap to ground. When driven by a differential clock, do not connect the VREF pin.", 18 OE5 (in) "Output enable-Output 5 When OE = high, the Q5 is enabled. When OE = low, Q is held low, and Q\ is held high for differential formats. For LVCMOS, both Q and Q\ are held low when OE is set low. OE5 contains an internal (See Datasheet)", 19 CLK1 (in) "Input clock 1", 20 ~{CLK1} (in) "Input clock 1 (complement) When CLK1 is driven by a single-ended input,When CLK1 is driven by a single-end input, connect VREF to C\L\K\1\. C\L\K\1\ contains an internal pull-up resistor", 21 OE6 (in) "Output enable-Output 6 When OE = high, the Q6 is enabled. When OE = low, Q is held low, and Q\ is held high for differential formats. For LVCMOS, both Q and Q\ are held low when OE is set low. OE6 contains an internal (See Datasheet)", 22 GND (power) "Ground", 23 OE9 (in) "Output enable-Output 9 When OE = high, the Q9 is enabled. When OE = low, Q is held low, and Q\ is held high for differential formats. For LVCMOS, both Q and Q\ are held low when OE is set low. OE9 contains an internal (See Datasheet)", 24 ~{Q9} (out) "Output clock 9 (complement)", 25 Q9 (out) "Output clock 9", 26 ~{Q8} (out) "Output clock 8 (complement)", 27 Q8 (out) "Output clock 8", 28 NC "No connect", 29 ~{Q7} (out) "Output clock 7 (complement)", 30 Q7 (out) "Output clock 7", 31 OE8 (in) "Output enable-Output 8 When OE = high, the Q8 is enabled. When OE = low, Q is held low, and Q\ is held high for differential formats. For LVCMOS, both Q and Q\ are held low when OE is set low. OE8 contains an internal (See Datasheet)", 32 SFOUT1 (in) "Output signal format control pin [1]  Three-level input control. Internally biased at VDD/2. Can be left floating or tied to  ground or VDD.", 33 OE7 (in) "Output enable-Output 7 When OE = high, the Q7 is enabled. When OE = low, Q is held low, and Q\ is held high for differential formats. For LVCMOS, both Q and Q\ are held low when OE is set low. OE7 contains an internal (See Datasheet)", 34 VDDOB (power) "Output Clock Voltage Supply-Bank B (Outputs: Q5 to Q9) Bypass with 1.0 uF capacitor and place close to the VDDOB pin as possible", 35 ~{Q6} (out) "Output clock 6 (complement)", 36 Q6 (out) "Output clock 6", 37 ~{Q5} (out) "Output clock 5 (complement)", 38 Q5 (out) "Output clock 5", 39 CLK_SEL (in) "MUX input select pin (LVCMOS) Clock inputs are switched without the introduction of glitches When CLK_SEL is high, CLK1 is selected When CLK_SEL is low, CLK0 is selected CLK_SEL contains an internal pull-down resistor", 40 ~{Q4} (out) "Output clock 4 (complement)", 41 Q4 (out) "Output clock 4", 42 ~{Q3} (out) "Output clock 3 (complement)", 43 Q3 (out) "Output clock 3", 44 VDDOA (power) "Output Voltage Supply-Bank A (Outputs: Q0 to Q4) Bypass with 1.0 uF capacitor and place close to the VDDOA pin as possible", 45 GND (power) "Ground Pad. Power supply ground and thermal relief"

## Si53320-B-GT
designator U?
1:5 Low Jitter LVPECL Clock Buffer with 2:1 Input Mux, 1 to 725 MHz, -40 to 85 degC, 20-pin SOP; Manufacturer: Silicon Labs; PartNumber: Si53320-B-GT; Frequency (MHz): 1 to 725; Sub-Family: Clock Buffers; DatasheetVersion: Rev. 0.4; PackageReference: TSSOP-20; PackageDescription: 20-Pin Thin Shrink Small-Outline Package, Body 6.5 x 4.4 mm, Pitch 0.65 mm; Supplier 1: Digi-Key; Supplier Part Number 1: SI53320-B-GT-ND; Supplier 2: Mouser; Supplier Part Number 2: 634-SI53320-B-GT; Output Format: LVPECL; Mounting Technology: Surface Mount; Code_JEDEC: MO-153; Code_IPC: J-STD-020; ComponentLink1Description: Manufacturer URL; ComponentLink1URL: http://www.silabs.com/; ComponentLink2Description: Datasheet; ComponentLink2URL: http://www.silabs.com/Support%20Documents/TechnicalDocs/Si53320.pdf; ComponentLink3Description: Package Specification; ComponentLink3URL: http://www.silabs.com/Support Documents/TechnicalDocs/C8051F52x-F53x.pdf
footprint SLAB-TSSOP-20_N (SOP, 20-Leads, Body 6.6x4.5mm, Pitch 0.65mm, , IPC Medium Density)
footprint SLAB-TSSOP-20_L (SOP, 20-Leads, Body 6.6x4.5mm, Pitch 0.65mm, IPC High Density)
footprint SLAB-TSSOP-20_M (SOP, 20-Leads, Body 6.6x4.5mm, Pitch 0.65mm, IPC Low Density)
pins: 1 Q0 (out) "Output clock 0.", 2 ~{Q0} (out) "Output clock 0 (complement).", 3 Q1 (out) "Output clock 1.", 4 ~{Q1} (out) "Output clock 1 (complement).", 5 Q2 (out) "Output clock 2.", 6 ~{Q2} (out) "Output clock 2 (complement).", 7 Q3 (out) "Output clock 3.", 8 ~{Q3} (out) "Output clock 3 (complement).", 9 Q4 (out) "Output clock 4.", 10 ~{Q4} (out) "Output clock 4 (complement).", 11 GND (power) "Ground.", 12 CLK_SEL (in) "Mux input select pin (LVCMOS). When CLK_SEL is high, CLK1 is selected. When CLK_SEL is low, CLK0 is selected. CLK_SEL contains an internal pull-down resistor.", 13 CLK0 (in) "Input clock 0. Defaults low when left open.", 14 ~{CLK0} (in) "Input clock 0 (complement).", 15 VREF (out) "Input reference voltage. When driven by a LVCMOS clock input, connect the unused clock input to VREF and a 0.1uF cap to ground. When driven by a differential clock, do not connect the VREF pin.", 16 CLK1 (in) "Input clock 1. Defaults low when left open.", 17 ~{CLK1} (in) "Input clock 1 (complement).", 18 VDD (power) "Core voltage supply. Bypass with 1.0 uF capacitor and place as close to the VDD pin as possible.", 19 OE (in) "Output enable. When OE = high, the clock outputs are enabled. When OE = low, Q is held low and Q\ is held high. OE contains an internal pull-up resistor.", 20 VDD (power) "Core voltage supply. Bypass with 1.0 uF capacitor and place as close to the VDD pin as possible."

## Si53321-B-GM
designator U?
1:10 Low Jitter LVPECL Clock Buffer with 2:1 Input Mux, 1 to 1250 MHz, -40 to 85 degC, 32-pin QFN; Manufacturer: Silicon Labs; PartNumber: Si53321-B-GM; Sub-Family: Clock Buffers; DatasheetVersion: Rev. 0.4; PackageReference: QFN-32; PackageDescription: 32-Pin Quad-Flat No-Leads Package, Body 5 x 5 mm, Pitch 0.5 mm; Supplier 1: Digi-Key; Supplier Part Number 1: SI53321-B-GM-ND; Supplier 2: Mouser; Supplier Part Number 2: 634-SI53321-B-GM; Frequency (MHz): 1 to 1250; Output Format: LVPECL; Mounting Technology: Surface Mount; Code_JEDEC: MO-220; Code_IPC: J-STD-020; ComponentLink1Description: Manufacturer URL; ComponentLink1URL: http://www.silabs.com/; ComponentLink2Description: Datasheet; ComponentLink2URL: http://www.silabs.com/Support%20Documents/TechnicalDocs/Si53321.pdf; ComponentLink3Description: Package Specification; ComponentLink3URL: http://www.silabs.com/Support%20Documents/TechnicalDocs/Si53321.pdf
footprint SLAB-QFN-32-2150x2150TP_A_N (QFN, 32-Leads, Body 5x5mm, Pitch 0.5mm, Thermal Pad 2.15x2.15mm, IPC Medium Density)
footprint SLAB-QFN-32-2150x2150TP_A_L (QFN, 32-Leads, Body 5x5mm, Pitch 0.5mm, Thermal Pad 2.15x2.15mm, IPC High Density)
footprint SLAB-QFN-32-2150x2150TP_A_M (QFN, 32-Leads, Body 5x5mm, Pitch 0.5mm, Thermal Pad 2.15x2.15mm, IPC Low Density)
pins: 1 VDD (power) "Core voltage supply.Bypass with 1.0 uF capacitor and place as close to the VDD pin as possible.", 2 CLK_SEL (in) "Mux input select pin (LVCMOS) Clock inputs are switched without the introduction of glitches. When CLK_SEL is high, CLK1 is selected. When CLK_SEL is low, CLK0 is selected. CLK_SEL contains an internal pull-down resistor.", 3 CLK0 (in) "Input clock 0", 4 ~{CLK0} (in) "Input clock 0 (complement)", 5 VREF (out) "Input reference voltage.When driven by a LVCMOS clock input, connect the unused clock input to VREF and a 0.1 uF cap to ground. When driven by a differential clock, do not connect the VREF pin", 6 CLK1 (in) "Input clock 1", 7 ~{CLK1} (in) "Input clock 1 (complement)", 8 GND (power) "Ground.", 9 VDD (power) "Core voltage supply.Bypass with 1.0 uF capacitor and place as close to the VDD pin as possible.", 10 ~{Q9} (out) "Output clock 9 (complement).", 11 Q9 (out) "Output clock 9.", 12 ~{Q8} (out) "Output clock 8 (complement).", 13 Q8 (out) "Output clock 8.", 14 ~{Q7} (out) "Output clock 7 (complement).", 15 Q7 (out) "Output clock 7.", 16 VDD (power) "Core voltage supply.Bypass with 1.0 uF capacitor and place as close to the VDD pin as possible.", 17 ~{Q6} (out) "Output clock 6 (complement).", 18 Q6 (out) "Output clock 6.", 19 ~{Q5} (out) "Output clock 5 (complement).", 20 Q5 (out) "Output clock 5.", 21 ~{Q4} (out) "Output clock 4 (complement).", 22 Q4 (out) "Output clock 4.", 23 ~{Q3} (out) "Output clock 3 (complement).", 24 Q3 (out) "Output clock 3.", 25 VDD (power) "Core voltage supply.Bypass with 1.0 uF capacitor and place as close to the VDD pin as possible.", 26 ~{Q2} (out) "Output clock 2 (complement).", 27 Q2 (out) "Output clock 2.", 28 ~{Q1} (out) "Output clock 1 (complement).", 29 Q1 (out) "Output clock 1.", 30 ~{Q0} (out) "Output clock 0 (complement).", 31 Q0 (out) "Output clock 0.", 32 VDD (power) "Core voltage supply.Bypass with 1.0 uF capacitor and place as close to the VDD pin as possible.", 33 GND (power) "Ground Pad.The exposed ground pad is thermally connected to the die to improve the heat transfer out of the package. The ground pad must be connected to GND to ensure device specifications are met."